# EAGLE library part TPA2012 (library Adafruit Audio FX Sound Board)
Component for Adafruit TPA2012/TS2012 2.1W Stereo Audio Amplifier Product Page: https://www.adafruit.com/product/1552 Datasheet: https://cdn-shop.adafruit.com/product-files/1552/tpa2012d2.pdf
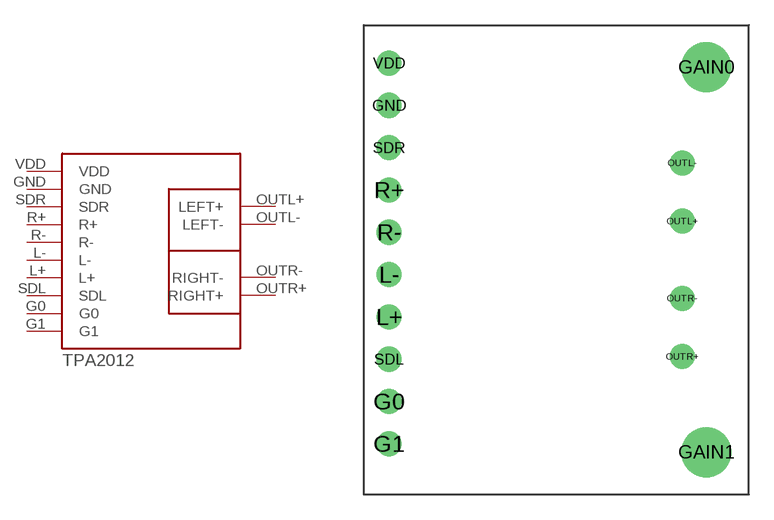
[diagram p0: symbol with the pads of TPA2012; footprint TPA2012]

Designator prefix -

## TPA2012  [TPA2012]
G0  G0
G1  G1
GND  GND
L+  L+
L-  L-
OUTL+  LEFT+
OUTL-  LEFT-
OUTR+  RIGHT+
OUTR-  RIGHT-
R+  R+
R-  R-
SDL  SDL
SDR  SDR
VDD  VDD

## Footprint TPA2012 (pad centres in mm)
drill 1: G0 1.524,5.588; G1 1.524,3.048; GND 1.524,23.368; L+ 1.524,10.668; L- 1.524,13.208; OUTL+ 19.114,16.411; OUTL- 19.114,19.911; OUTR+ 19.114,8.283; OUTR- 19.114,11.783; R+ 1.524,18.288; R- 1.524,15.748; SDL 1.524,8.128; SDR 1.524,20.828; VDD 1.524,25.908
drill 2: GAIN0 20.574,25.654; GAIN1 20.574,2.54